# EAGLE library part DK41U (library inductors-2)
FILTER
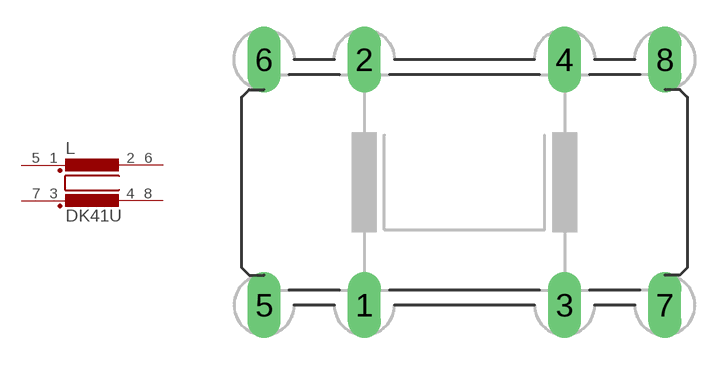
[diagram p1: symbol with the pads of DK41; footprint DK41]

Designator prefix L

## DK41U  [DK41]
1  1  pas
2  2  pas
3  3  pas
4  4  pas
5  5  pas
6  6  pas
7  7  pas
8  8  pas

## Footprint DK41 (pad centres in mm)
FILTER manufacturer Vogt
drill 1.118 long: 1 -5.08,-6.223; 2 -5.08,6.223; 3 5.08,-6.223; 4 5.08,6.223; 5 -10.16,-6.223; 6 -10.16,6.223; 7 10.16,-6.223; 8 10.16,6.223